# EAGLE library part TML152XX (library noah)
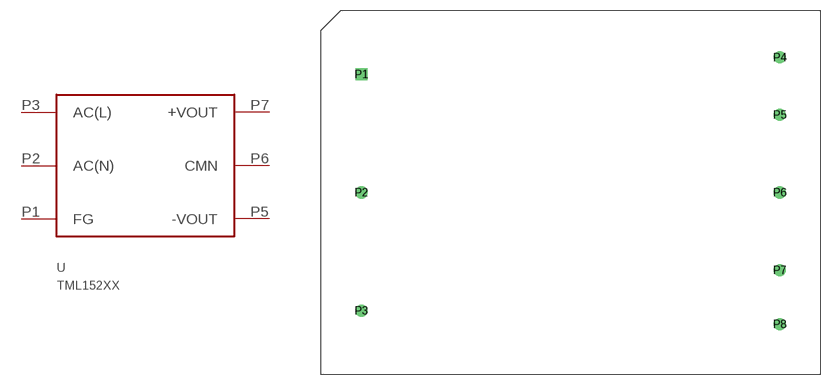
[diagram p43: symbol with the pads of TML15; footprint TML15]

Designator prefix -

## TML152XX  [TML15]
P1  FG
P2  AC(N)
P3  AC(L)
P5  -VOUT
P6  CMN
P7  +VOUT

## Footprint TML15 (pad centres in mm)
drill 1.2 square: P1 0,17.5
drill 1.2: P2 0,0; P3 0,-17.5; P4 62,20; P5 62,11.5; P6 62,0; P7 62,-11.5; P8 62,-19.5